# Altium schematic symbol library Diode_Tvs_2P_Common_Anode.SchLib: 1 symbol
Pins are listed as number, name and electrical type; pins without a type are passive.

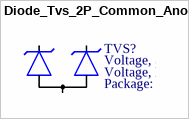
[diagram p0: symbol Diode_Tvs_2P_Common_Anode]

## Diode_Tvs_2P_Common_Anode
designator TVS?
Component Category: Diode; ComponentLink1Description: Datasheet; ComponentLink1URL: *; ComponentLink2Description: Supplier Link; ComponentLink2URL: *; Manufacturer Part Number: *; Supplier: *; Supplier Part Number: *; Manufacturer: *; Operating Temperature, Min: *℃; Operating Temperature, Max: *℃; Quantity, Min: *; Quantity, Max: *; Price, Min: *; Price, Max: *; Supplier Currency: *; Supplier Link: *; Component Type: Zener; Voltage, Break Down: *; Voltage, Stand Off: *; Package: *
footprint Diode_SOT-723_2P_Common_Anode_Type_1
pins: A, C1, C2